# EAGLE library part IR2106 (library IR2106)
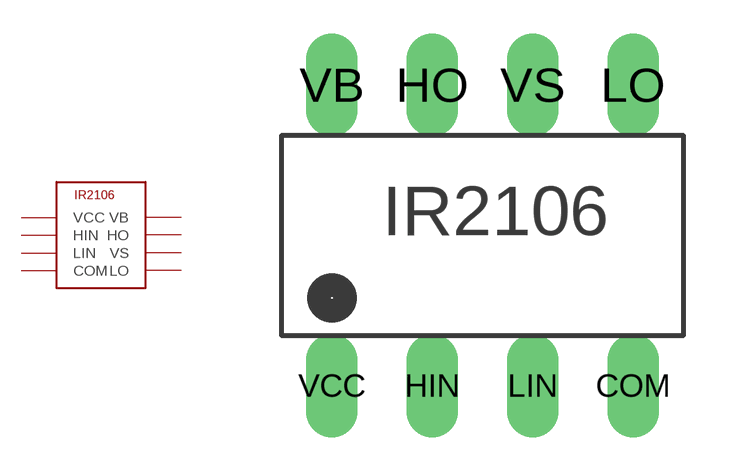
[diagram p0: symbol with the pads of IR2106; footprint IR2106]

Designator prefix -

## IR2106 (DEVICE: IR2106)  [IR2106]
COM  COM
HIN  HIN
HO  HO
LIN  LIN
LO  LO
VB  VB
VCC  VCC
VS  VS

## Footprint IR2106 (pad centres in mm)
drill 0.8 long: COM 3.81,-3.81; HIN -1.27,-3.81; HO -1.27,3.81; LIN 1.27,-3.81; LO 3.81,3.81; VB -3.81,3.81; VCC -3.81,-3.81; VS 1.27,3.81